# EAGLE library part HE721C (library balmer)
RELAY reed, 1 x norm. open, Hamlin
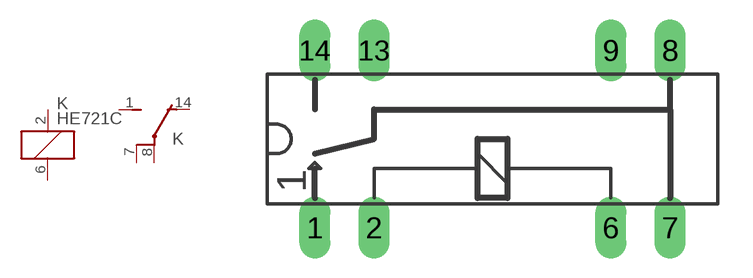
[diagram p5: symbol with the pads of HE721C; footprint HE721C]

Designator prefix K; gates 1=K G$1=U2

## HE721C (OC_FARNELL: unknown; OC_NEWARK: unknown)  [HE721C]
1  G$1:S  pas
2  1:1  pas
6  1:2  pas
7  G$1:P1  pas
8  G$1:P  pas
14  G$1:O  pas

## Footprint HE721C (pad centres in mm)
RELAY reed, 1 x norm. open, Hamlin
drill 0.813 long: 1 -7.62,-3.81; 2 -5.08,-3.81; 6 5.08,-3.81; 7 7.62,-3.81; 8 7.62,3.81; 9 5.08,3.81; 13 -5.08,3.81; 14 -7.62,3.81